# EAGLE library part ENC28J60 (library enc28j60)
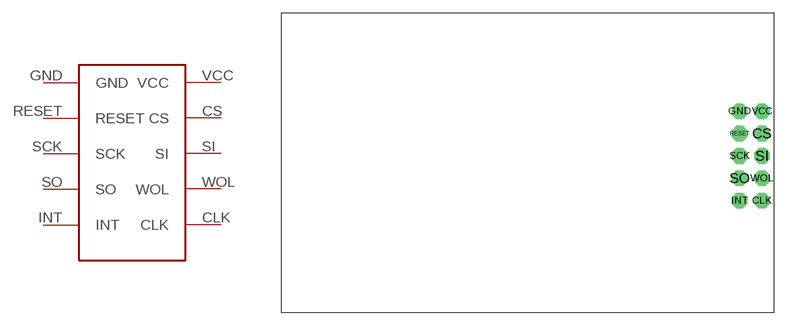
[diagram p0: symbol with the pads of ENC28J60; footprint ENC28J60]

Designator prefix -

## ENC28J60ENC28J60  [ENC28J60]
CLK  CLK
CS  CS
GND  GND
INT  INT
RESET  RESET
SCK  SCK
SI  SI
SO  SO
VCC  VCC
WOL  WOL

## Footprint ENC28J60 (pad centres in mm)
drill 0.8 pad 1.778 octagon: CLK 54.61,12.7; CS 54.61,20.32; GND 52.07,22.86; INT 52.07,12.7; RESET 52.07,20.32; SCK 52.07,17.78; SI 54.61,17.78; SO 52.07,15.24; VCC 54.61,22.86; WOL 54.61,15.24